# EAGLE library part M25P40 (library iStivi - ICs)
MP25P40 4MB serial flash
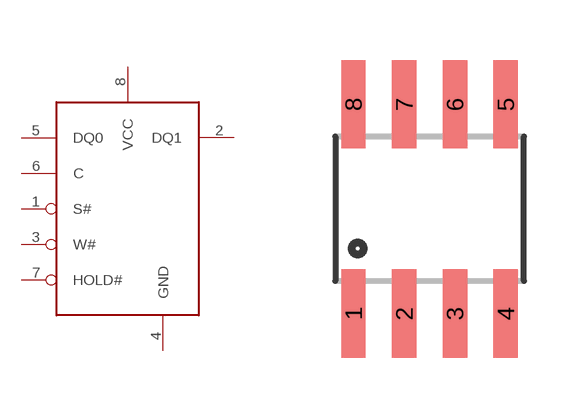
[diagram p26: symbol with the pads of SO08; footprint SO08]

Designator prefix -

## M25P40  [SO08]
1  S#
2  DQ1
3  W#
4  GND
5  DQ0
6  C
7  HOLD#
8  VCC

## Footprint SO08 (pad centres in mm)
Small Outline Package Fits JEDEC packages (narrow SOIC-8)
smd 0.61 x 2.21: 1 -1.905,-2.616; 2 -0.635,-2.616; 3 0.635,-2.616; 4 1.905,-2.616; 5 1.905,2.616; 6 0.635,2.616; 7 -0.635,2.616; 8 -1.905,2.616